# Altium footprint library Passive.PcbLib: 57 footprints (part 4 of 4)
Each footprint in its own frame and in the unit in brackets; x right, y up, seen from the top. Pads: shape width x height; smd on the part's side, far side on the other; paste and mask are expansions set on the pad; w line width, h text height; cw(c..) or ccw(c..) is an arc to the next point about the centre after c.
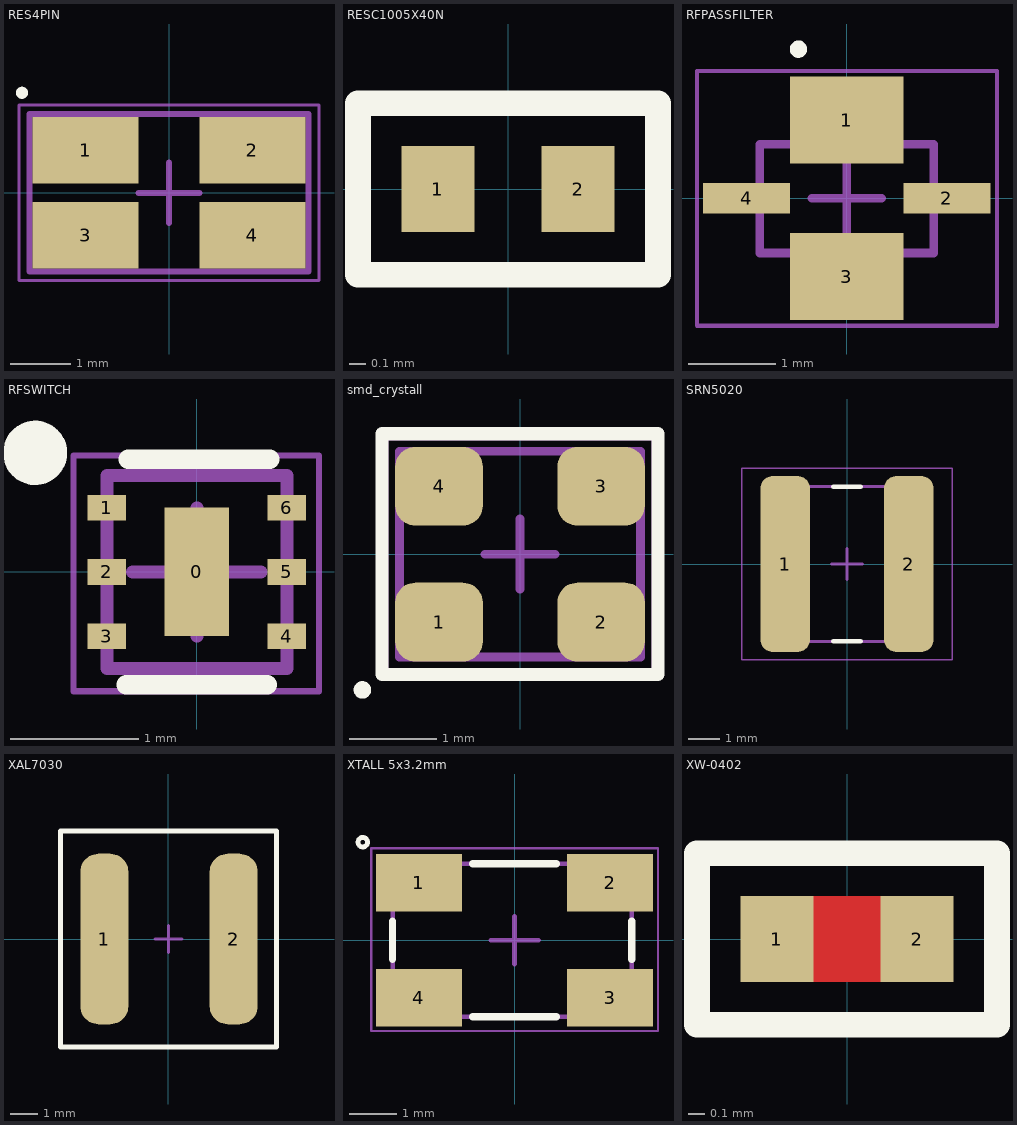
[diagram p3: the footprints below, top view; thin cyan lines are the x and y axes]

## RES4PIN [mm]
height 0.65
pads (4):
  rect 1.75x1.1 smd: 1(-1.375,0.7) 2(1.375,0.7) 3(-1.375,-0.7) 4(1.375,-0.7)
Top Overlay:
  circle w0.1: c-2.425,1.65 r0.05
Mechanical 13:
  lines w0.1: -2.3,-1.3 2.3,-1.3 2.3,1.3 -2.3,1.3 -2.3,-1.3
Mechanical 15:
  lines w0.05: -2.475,-1.45 2.475,-1.45 2.475,1.45 -2.475,1.45 -2.475,-1.45
  lines w0.1: -0.5,0 0.5,0 ; 0,-0.5 0,0.5
3D body: height 0.65, standoff 0, extent -2.3,-1.3 2.3,1.3

## RESC1005X40N [mil] "RESC1005X40N"
pads (2):
  rect 17x20 smd: 1(-16.35,0) 2(16.35,0)
Top Overlay:
  lines w6: -35,-20 -35,20 35,20 35,-20 -35,-20
  text ".Designator" at -7,34 h25

## RFPASSFILTER [mm]
height 0.7
pads (4):
  rect 1.3x1 smd mask+0.07: 1(0,0.9) 3(0,-0.9)
  rect 1x0.35 smd mask+0.07: 2(1.15,0) 4(-1.15,0)
Top Overlay:
  circle w0.1: c-0.555,1.715 r0.05
Mechanical 13:
  lines w0.1: -0.999,-0.628 -0.999,0.623 1.001,0.623 1.001,-0.628 -0.999,-0.628
Mechanical 15:
  lines w0.05: -1.721,-1.465 -1.721,1.463 1.727,1.463 1.727,-1.465 -1.721,-1.465
  lines w0.1: -0.4,0 0.4,0 ; 0,-0.4 0,0.4
3D body: height 0.7, standoff 0, extent -0.999,-0.628 1.001,0.623

## RFSWITCH [mm]
height 0.8
pads (7):
  rect 0.5x1 smd mask+0.09: 0(0,0)
  rect 0.3x0.2 smd mask+0.09: 1(-0.7,0.5) 2(-0.7,0) 3(-0.7,-0.5) 4(0.7,-0.5) 5(0.7,0) 6(0.7,0.5)
Top Overlay:
  circle w0.25: c-1.259,0.927 r0.125
  lines w0.15: -0.552,-0.877 0.548,-0.877 ; -0.533,0.876 0.567,0.876
Mechanical 13:
  lines w0.1: -0.7,-0.75 0.7,-0.75 0.7,0.75 -0.7,0.75 -0.7,-0.75
Mechanical 15:
  lines w0.05: -0.96,-0.928 0.95,-0.928 0.95,0.906 -0.96,0.906 -0.96,-0.928
  lines w0.1: -0.5,0 0.5,0 ; 0,-0.5 0,0.5
3D body: height 0.8, standoff 0.2, extent -0.7,-0.75 0.7,0.75

## smd_crystall [mm]
height 0.7
pads (4):
  rrect50% 1x0.9 smd mask+0.102: 1(-0.925,-0.775) 2(0.925,-0.775) 3(0.925,0.775) 4(-0.925,0.775)
Top Overlay:
  circle w0.1: c-1.8,-1.55 r0.05
  lines w0.15: -1.575,-1.375 -1.575,1.375 1.575,1.375 1.575,-1.375 -1.575,-1.375
Mechanical 13:
  lines w0.1: -1.375,-1.175 1.375,-1.175 1.375,1.175 -1.375,1.175 -1.375,-1.175
Mechanical 15:
  lines w0.05: -1.525,-1.325 1.525,-1.325 1.525,1.325 -1.525,1.325 -1.525,-1.325
  lines w0.1: -0.4,0 0.4,0 ; 0,-0.4 0,0.4

## SRN5020 [mm] "Precision Wire Wound Inductor, 2-Leads, Body 5,00x5,00mm, IPC Medium Density"
height 2
pads (2):
  rrect50% 1.6x5.7 smd: 1(-2,0) 2(2,0)
Top Overlay:
  lines w0.15: -0.45,-2.5 0.45,-2.5 ; -0.45,2.5 0.45,2.5
Mechanical 13:
  lines w0.1: -2.5,-2.5 -2.5,2.5 2.5,2.5 2.5,-2.5 -2.5,-2.5
Mechanical 15:
  lines w0.05: -3.4,-3.1 -3.4,3.1 3.4,3.1 3.4,-3.1 -3.4,-3.1
  lines w0.1: -0.5,0 0.5,0 ; 0,-0.5 0,0.5
3D body: height 2, standoff 0, extent -2.5,-2.5 2.5,2.5

## XAL7030 [mm]
height 0.65
pads (2):
  rrect75% 1.78x6.32 smd: 1(-2.375,0) 2(2.413,0)
Top Overlay:
  lines w0.2: -4,-4 -4,4 4,4 4,-4 -4,-4
Mechanical 13:
  lines w0.1: -4,-4 -4,4 4,4 4,-4 -4,-4
  text ".Designator" at -1.65,1.65 h0.5
Mechanical 15:
  lines w0.1: -0.5,0 0.5,0 ; 0,-0.5 0,0.5 ; -4,-4 -4,4 4,4 4,-4 -4,-4
3D body: height 3.5, standoff 0.4, extent -4,-4 4,4

## XTALL 5x3.2mm [mm]
height 0.65
pads (4):
  rect 1.8x1.2 smd: 1(-2,1.2) 2(2,1.2) 3(2,-1.2) 4(-2,-1.2)
Top Overlay:
  circle w0.1: c-3.175,2.05 r0.1
  lines w0.15: -2.55,-0.4 -2.55,0.4 ; -0.875,-1.6 0.875,-1.6 ; -0.875,1.6 0.875,1.6 ; 2.45,-0.4 2.45,0.4
Mechanical 13:
  lines w0.1: -2.55,-1.6 2.45,-1.6 2.45,1.6 -2.55,1.6 -2.55,-1.6
  text ".Designator" at -1.85,-0.15 h0.5
Mechanical 15:
  lines w0.05: -3,-1.9 3,-1.9 3,1.925 -3,1.925 -3,-1.9
  lines w0.1: -0.5,0 0.5,0 ; 0,-0.5 0,0.5
3D body: height 1, standoff 0, extent -2.55,-1.6 2.45,1.6

## XW-0402 [mil] "XW-0402"
pads (2):
  rect 17x20 smd: 1(-16.35,0) 2(16.35,0)
Top Layer:
  region: -24,-10 24,-10 24,10 -24,10
  region: -7.9,-10 7.8,-10 7.8,10 -7.9,10
  region: -7.9,-10 7.8,-10 7.8,10 -7.9,10
Top Overlay:
  lines w6: -35,-20 35,-20 35,20 -35,20 -35,-20
  text ".Designator" at -106,53 h25